# Altium schematic symbol library LM35.SchLib: 1 symbol
Pins are listed as number, name and electrical type; pins without a type are passive.

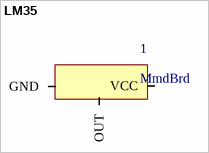
[diagram p0: symbol LM35]

## LM35
designator 1, comment MmdBrd
pins: 1 VCC, 2 GND, 3 OUT